# Altium schematic symbol library STL6P3LLH6.SchLib: 1 symbol
Pins are listed as number, name and electrical type; pins without a type are passive.

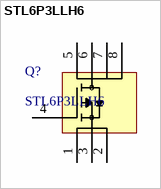
[diagram p0: symbol STL6P3LLH6]

## STL6P3LLH6
designator Q?
P-Channel 30 V 6A (Tc) 2.9W (Tc) Surface Mount PowerFlat™ (3.3x3.3); Manufacturer: STMicroelectronics; Manufacturer_Part_Number: STL6P3LLH6; ComponentLink1Description: Datasheet; ComponentLink1URL: https://www.st.com/content/ccc/resource/technical/document/datasheet/3c/90/16/29/a8/76/48/02/DM00064617.pdf/files/DM00064617.pdf/jcr:content/translations/en.DM00064617.pdf
footprint STL6P3LLH6
pins: 1 S, 2 S, 3 S, 4 G, 5 D, 6 D, 7 D, 8 D